# Altium schematic symbol library PMOS.SchLib: 1 symbol
Pins are listed as number, name and electrical type; pins without a type are passive.

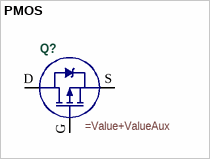
[diagram p0: symbol PMOS]

## PMOS
designator Q?
=Description
pins: D, G, S